# EAGLE library part TPS62177DQCR (library TPS62177DQCR)
TEXAS INSTRUMENTS - TPS62177DQCR - DC/DC CONV, SYNC BUCK, 1MHZ, WSON-10 Source: Datasheet <http://www.ti.com/general/docs/lit/getliterature.tsp?genericPartNumber=TPS62177&&fileType=pdf>
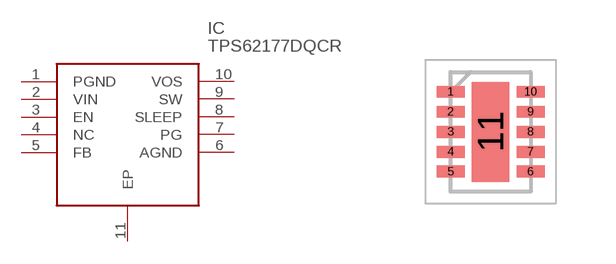
[diagram p0: symbol with the pads of SON50P200X300X80-11N; footprint SON50P200X300X80-11N]

Designator prefix IC

## TPS62177DQCR (Arrow_Part_Number: TPS62177DQCR; Arrow_Price-Stock: https://www.arrow.com/en/products/tps62177dqcr/texas-instruments.html?utm_currency=USD&region=nac; Description: TEXAS INSTRUMENTS - TPS62177DQCR - DC/DC CONV, SYNC BUCK, 1MHZ, WSON-10; Height: 0.8mm; Manufacturer_Name: Texas Instruments; Manufacturer_Part_Number: TPS62177DQCR; Mouser_Part_Number: 595-TPS62177DQCR; Mouser_Price-Stock: https://www.mouser.co.uk/ProductDetail/Texas-Instruments/TPS62177DQCR?qs=E2%2FxqS9xjzqbR7njM%2FaBpg%3D%3D)  [SON50P200X300X80-11N]
1  PGND
2  VIN
3  EN
4  NC  nc
5  FB
6  AGND
7  PG
8  SLEEP
9  SW
10  VOS
11  EP

## Footprint SON50P200X300X80-11N (pad centres in mm)
DQC001A
smd 0.7 x 0.3: 1 -1,1; 2 -1,0.5; 3 -1,0; 4 -1,-0.5; 5 -1,-1; 6 1,-1; 7 1,-0.5; 8 1,0; 9 1,0.5; 10 1,1
smd 0.94 x 2.5: 11 0,0